# EAGLE library part LTC6992-1 (library 00_cody)
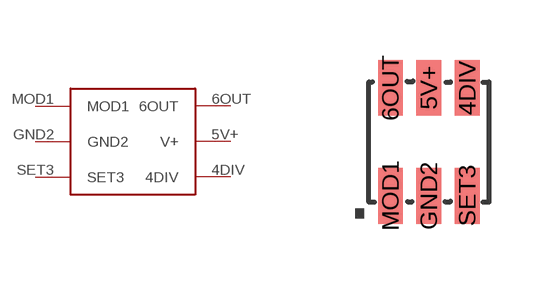
[diagram p145: symbol with the pads of LTC6992; footprint LTC6992]

Designator prefix -

## LTC6992-1  [LTC6992]
4DIV  4DIV
5V+  V+
6OUT  6OUT
GND2  GND2
MOD1  MOD1
SET3  SET3

## Footprint LTC6992 (pad centres in mm)
smd 0.62 x 1.4: 4DIV 0.96,1.35; 5V+ 0,1.35; 6OUT -0.96,1.35; GND2 0,-1.35; MOD1 -0.96,-1.35; SET3 0.96,-1.35